# Altium schematic symbol library 4Pin.SchLib: 1 symbol
Pins are listed as number, name and electrical type; pins without a type are passive.

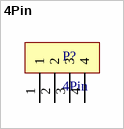
[diagram p0: symbol 4Pin]

## 4Pin
designator P?
footprint 4Pin-2.54
pins: 1, 2, 3, 4